# EAGLE library part GRID-TQFP100-12X12 (library _RoweTel)
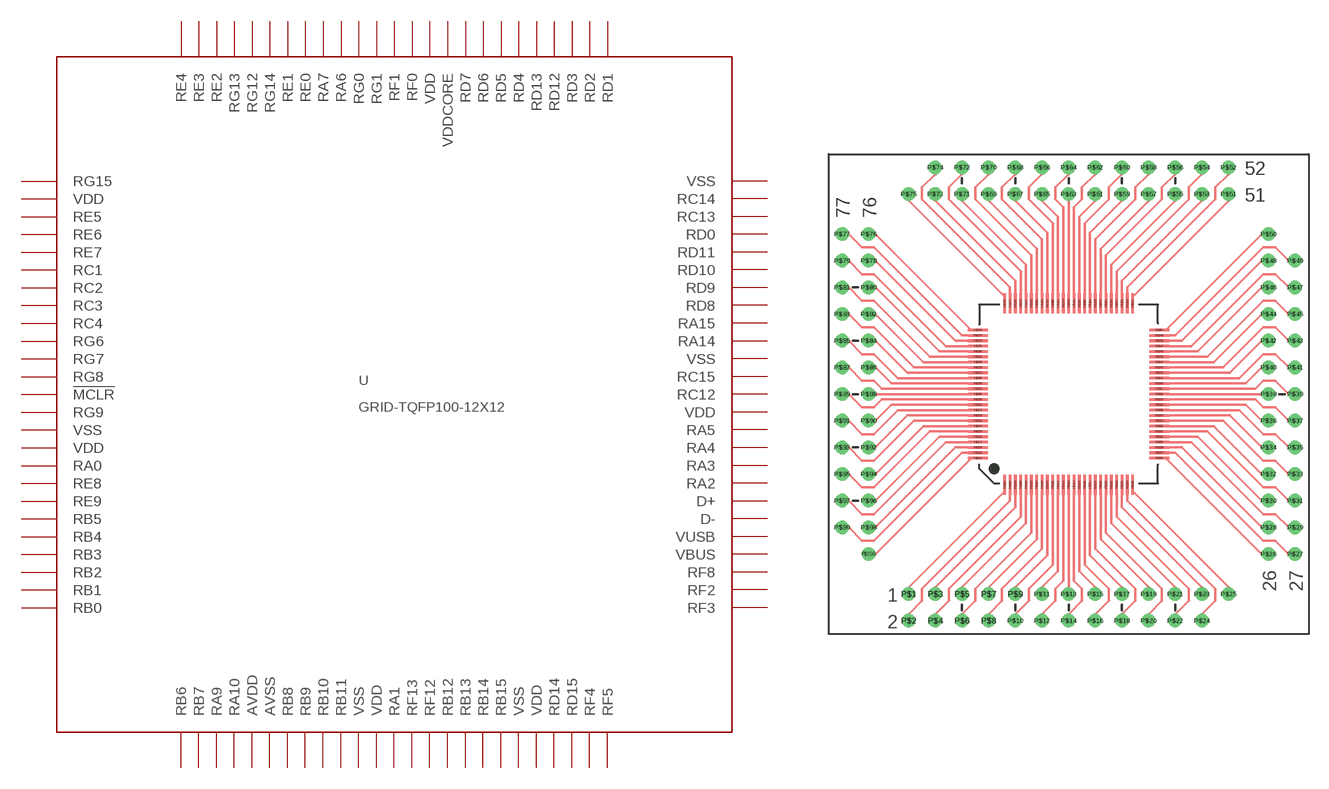
[diagram p14: symbol with the pads of GRID-TQFP100-12X12; footprint GRID-TQFP100-12X12]

Designator prefix U

## GRID-TQFP100-12X12  [GRID-TQFP100-12X12]
P$1  RG15
P$2  VDD  pwr
P$3  RE5
P$4  RE6
P$5  RE7
P$6  RC1
P$7  RC2
P$8  RC3
P$9  RC4
P$10  RG6
P$11  RG7
P$12  RG8
P$13  !MCLR  in
P$14  RG9
P$15  VSS  pwr
P$16  VDD  pwr
P$17  RA0
P$18  RE8
P$19  RE9
P$20  RB5
P$21  RB4
P$22  RB3
P$23  RB2
P$24  RB1
P$25  RB0
P$26  RB6
P$27  RB7
P$28  RA9
P$29  RA10
P$30  AVDD  pwr
P$31  AVSS  pwr
P$32  RB8
P$33  RB9
P$34  RB10
P$35  RB11
P$36  VSS  pwr
P$37  VDD  pwr
P$38  RA1
P$39  RF13
P$40  RF12
P$41  RB12
P$42  RB13
P$43  RB14
P$44  RB15
P$45  VSS  pwr
P$46  VDD  pwr
P$47  RD14
P$48  RD15
P$49  RF4
P$50  RF5
P$51  RF3
P$52  RF2
P$53  RF8
P$54  VBUS
P$55  VUSB  pas
P$56  D-
P$57  D+
P$58  RA2
P$59  RA3
P$60  RA4
P$61  RA5  out
P$62  VDD  pwr
P$63  RC12
P$64  RC15
P$65  VSS  pwr
P$66  RA14
P$67  RA15
P$68  RD8
P$69  RD9
P$70  RD10
P$71  RD11
P$72  RD0
P$73  RC13
P$74  RC14
P$75  VSS  pwr
P$76  RD1
P$77  RD2
P$78  RD3
P$79  RD12
P$80  RD13
P$81  RD4
P$82  RD5
P$83  RD6
P$84  RD7
P$85  VDDCORE  pwr
P$86  VDD  pwr
P$87  RF0
P$88  RF1
P$89  RG1
P$90  RG0
P$91  RA6
P$92  RA7
P$93  RE0
P$94  RE1
P$95  RG14
P$96  RG12
P$97  RG13
P$98  RE2
P$99  RE3
P$100  RE4

## Footprint GRID-TQFP100-12X12 (pad centres in mm)
smd 1.5 x 0.2: P239 6.8,0.4; P$226 6.8,-4.8; P$227 6.8,-4.4; P$228 6.8,-4; P$229 6.8,-3.6; P$230 6.8,-3.2; P$231 6.8,-2.8; P$232 6.8,-2.4; P$233 6.8,-2; P$234 6.8,-1.6; P$235 6.8,-1.2; P$236 6.8,-0.8; P$237 6.8,-0.4; P$238 6.8,0; P$240 6.8,0.8; P$241 6.8,1.2; P$242 6.8,1.6; P$243 6.8,2; P$244 6.8,2.4; P$245 6.8,2.8; P$246 6.8,3.2; P$247 6.8,3.6; P$248 6.8,4; P$249 6.8,4.4; P$250 6.8,4.8; P$276 -6.8,4.8; P$277 -6.8,4.4; P$278 -6.8,4; P$279 -6.8,3.6; P$280 -6.8,3.2; P$281 -6.8,2.8; P$282 -6.8,2.4; P$283 -6.8,2; P$284 -6.8,1.6; P$285 -6.8,1.2; P$286 -6.8,0.8; P$287 -6.8,0.4; P$288 -6.8,0; P$289 -6.8,-0.4; P$290 -6.8,-0.8; P$291 -6.8,-1.2; P$292 -6.8,-1.6; P$293 -6.8,-2; P$294 -6.8,-2.4; P$295 -6.8,-2.8; P$296 -6.8,-3.2; P$297 -6.8,-3.6; P$298 -6.8,-4; P$299 -6.8,-4.4; P$300 -6.8,-4.8
drill 0.5 pad 1.016: P$1 -12,-15; P$2 -12,-17; P$3 -10,-15; P$4 -10,-17; P$5 -8,-15; P$6 -8,-17; P$7 -6,-15; P$8 -6,-17; P$9 -4,-15; P$10 -4,-17; P$11 -2,-15; P$12 -2,-17; P$13 0,-15; P$14 0,-17; P$15 2,-15; P$16 2,-17; P$17 4,-15; P$18 4,-17; P$19 6,-15; P$20 6,-17; P$21 8,-15; P$22 8,-17; P$23 10,-15; P$24 10,-17; P$25 12,-15; P$26 15,-12; P$27 17,-12; P$28 15,-10; P$29 17,-10; P$30 15,-8; P$31 17,-8; P$32 15,-6; P$33 17,-6; P$34 15,-4; P$35 17,-4; P$36 15,-2; P$37 17,-2; P$38 15,0; P$39 17,0; P$40 15,2; P$41 17,2; P$42 15,4; P$43 17,4; P$44 15,6; P$45 17,6; P$46 15,8; P$47 17,8; P$48 15,10; P$49 17,10; P$50 15,12; P$51 12,15; P$52 12,17; P$53 10,15; P$54 10,17; P$55 8,15; P$56 8,17; P$57 6,15; P$58 6,17; P$59 4,15; P$60 4,17; P$61 2,15; P$62 2,17; P$63 0,15; P$64 0,17; P$65 -2,15; P$66 -2,17; P$67 -4,15; P$68 -4,17; P$69 -6,15; P$70 -6,17; P$71 -8,15; P$72 -8,17; P$73 -10,15; P$74 -10,17; P$75 -12,15; P$76 -15,12; P$77 -17,12; P$78 -15,10; P$79 -17,10; P$80 -15,8; P$81 -17,8; P$82 -15,6; P$83 -17,6; P$84 -15,4; P$85 -17,4; P$86 -15,2; P$87 -17,2; P$88 -15,0; P$89 -17,0; P$90 -15,-2; P$91 -17,-2; P$92 -15,-4; P$93 -17,-4; P$94 -15,-6; P$95 -17,-6; P$96 -15,-8; P$97 -17,-8; P$98 -15,-10; P$99 -17,-10; P$100 -15,-12
smd 0.2 x 1.5: P$201 -4.8,-6.8; P$202 -4.4,-6.8; P$203 -4,-6.8; P$204 -3.6,-6.8; P$205 -3.2,-6.8; P$206 -2.8,-6.8; P$207 -2.4,-6.8; P$208 -2,-6.8; P$209 -1.6,-6.8; P$210 -1.2,-6.8; P$211 -0.8,-6.8; P$212 -0.4,-6.8; P$213 0,-6.8; P$214 0.4,-6.8; P$215 0.8,-6.8; P$216 1.2,-6.8; P$217 1.6,-6.8; P$218 2,-6.8; P$219 2.4,-6.8; P$220 2.8,-6.8; P$221 3.2,-6.8; P$222 3.6,-6.8; P$223 4,-6.8; P$224 4.4,-6.8; P$225 4.8,-6.8; P$251 4.8,6.8; P$252 4.4,6.8; P$253 4,6.8; P$254 3.6,6.8; P$255 3.2,6.8; P$256 2.8,6.8; P$257 2.4,6.8; P$258 2,6.8; P$259 1.6,6.8; P$260 1.2,6.8; P$261 0.8,6.8; P$262 0.4,6.8; P$263 0,6.8; P$264 -0.4,6.8; P$265 -0.8,6.8; P$266 -1.2,6.8; P$267 -1.6,6.8; P$268 -2,6.8; P$269 -2.4,6.8; P$270 -2.8,6.8; P$271 -3.2,6.8; P$272 -3.6,6.8; P$273 -4,6.8; P$274 -4.4,6.8; P$275 -4.8,6.8